# Altium footprint library USB.PcbLib: 54 footprints (part 1 of 4)
Each footprint in its own frame and in the unit in brackets; x right, y up, seen from the top. Pads: shape width x height; smd on the part's side, far side on the other; paste and mask are expansions set on the pad; w line width, h text height; cw(c..) or ccw(c..) is an arc to the next point about the centre after c.
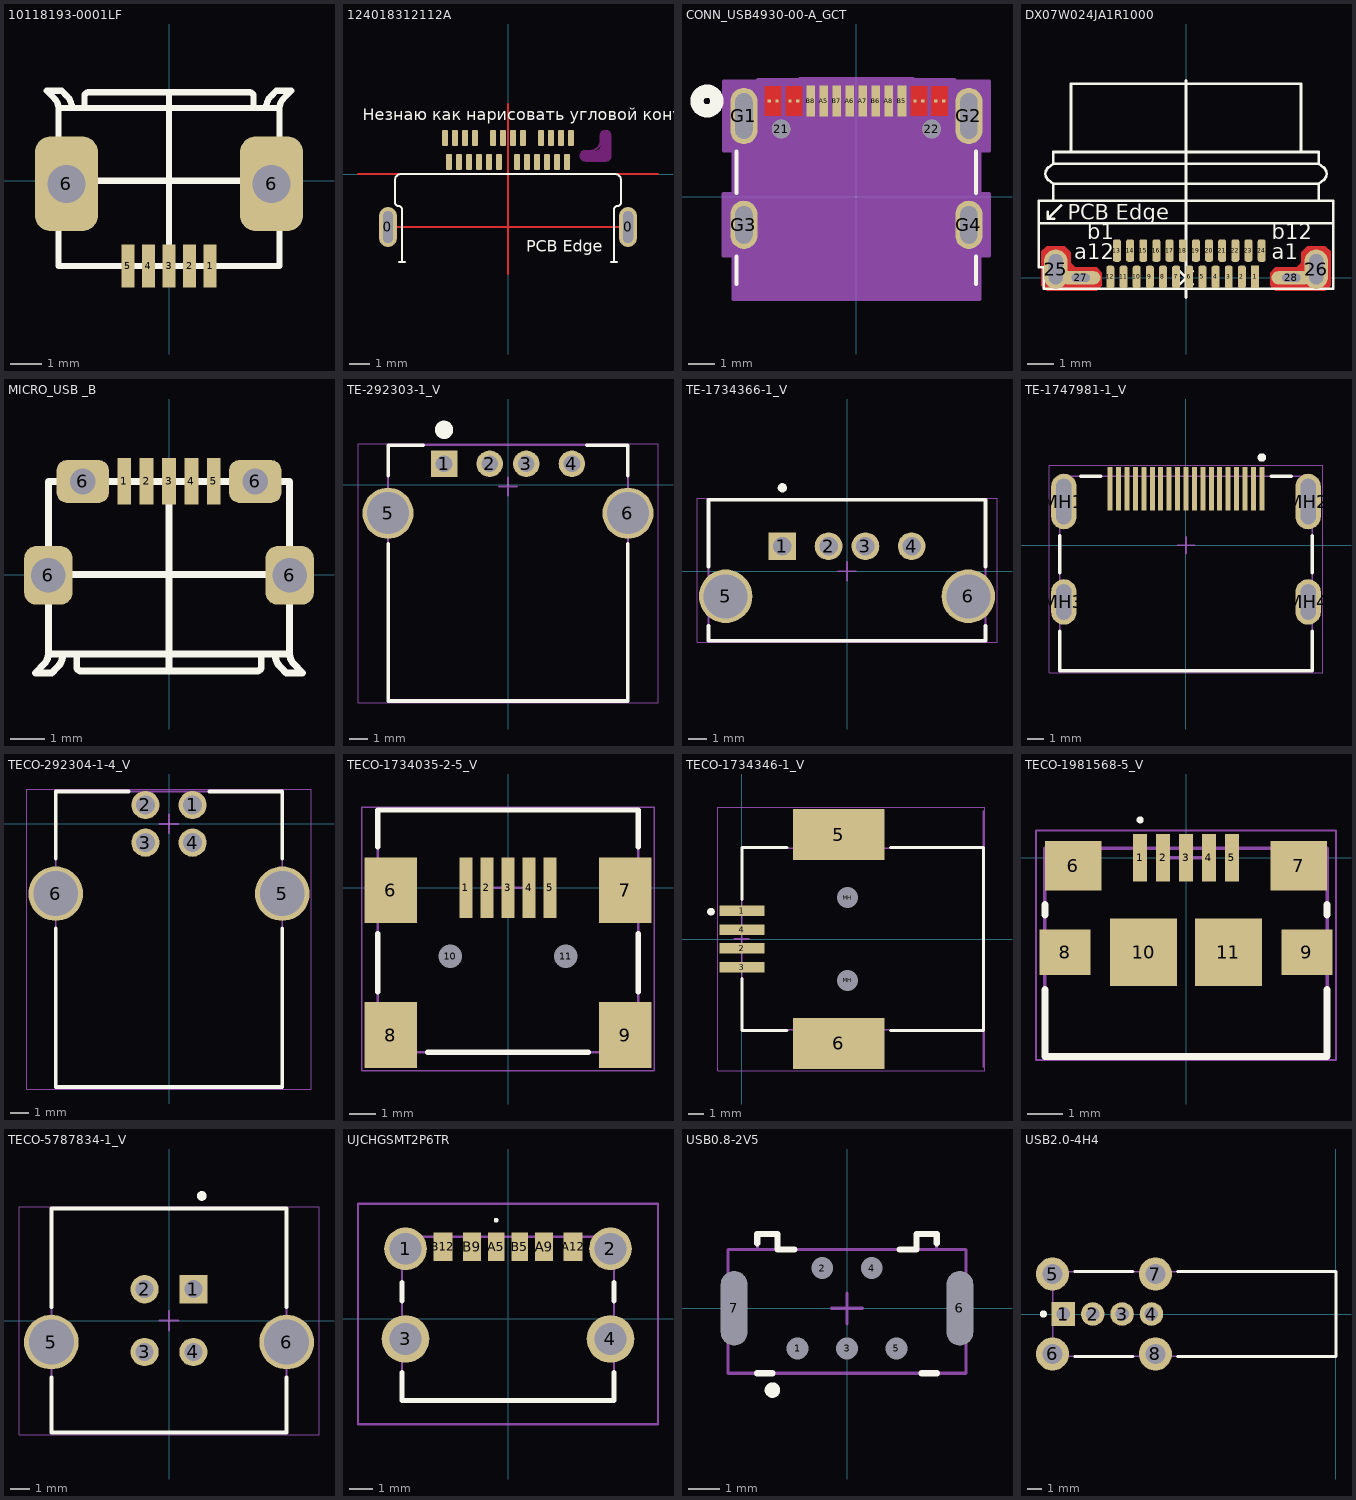
[diagram p0: the footprints below, top view; thin cyan lines are the x and y axes]

## 10118193-0001LF [mm]
pads (7):
  rect 0.4x1.35 smd: 1(1.3,-2.7) 2(0.65,-2.7) 3(0,-2.7) 4(-0.65,-2.7) 5(-1.3,-2.7)
  rrect50% 2x3 hole 1.2: 6(-3.25,-0.1) 6(3.25,-0.1)
Top Overlay:
  lines w0.2: -3.875,0 3.875,0 ; -3.075,2.3 ccw(c-3.618,2.3) -3.234,2.684 -3.4,2.85 -3.875,2.85 -3.624,2.599 cw(c-3.922,2.3) -3.5,2.3 ; -2.675,2.3 -2.675,2.69 cw(c-2.59,2.69) -2.65,2.75 cw(c-2.529,2.629) -2.529,2.8 0,2.8 ; 0,-2.7 0,2.8 ; 2.675,2.3 2.675,2.69 ccw(c2.59,2.69) 2.65,2.75 ccw(c2.529,2.629) 2.529,2.8 0,2.8 ; 3.075,2.3 cw(c3.618,2.3) 3.234,2.684 3.4,2.85 3.875,2.85 3.624,2.599 ccw(c3.922,2.3) 3.5,2.3 ; -3.5,2.3 3.5,2.3 ; -3.5,2.3 -3.5,-2.7 3.5,-2.7 3.5,2.3
3D body "10118193-0001lfc.stp": height 3.18, standoff -0.43, extent -3.928,-3 3.928,2.661

## 124018312112A [mm]
pads (26):
  oval 0.9x2 hole 0.5 slot 1.6 at 90 deg: 0(-6,-2.65) 0(6,-2.65)
  rrect50% 0.3x0.8 smd: 0(-3.15,1.8) 0(-2.95,0.6) 0(-2.65,1.8) 0(-2.45,0.6) 0(-2.15,1.8) 0(-1.95,0.6) 0(-1.65,1.8) 0(-1.45,0.6) 0(-0.95,0.6) 0(-0.75,1.8) 0(-0.45,0.6) 0(-0.25,1.8) 0(0.25,1.8) 0(0.45,0.6) 0(0.75,1.8) 0(0.95,0.6) 0(1.45,0.6) 0(1.65,1.8) 0(1.95,0.6) 0(2.15,1.8) 0(2.45,0.6) 0(2.65,1.8) 0(2.95,0.6) 0(3.15,1.8)
Top Layer:
  lines w0.1: -7.5,0 7.5,0 ; -6,-2.65 6,-2.65 ; 0,-5 0,3.5 ; 0,0.91 0,2.2
Top Layer keep-out:
  lines w0.1: 3.875,0.66 cw(c3.875,0.91) 3.875,1.16 4.125,1.16 ccw(c4.125,1.66) 4.625,1.66 4.625,1.91 cw(c4.875,1.91) 5.125,1.91 5.125,0.91 cw(c4.875,0.91) 4.875,0.66 3.875,0.66
Top Overlay:
  lines w0.1: -5.65,-1.412 ccw(c-5.463,-1.412) -5.463,-1.6 ; -5.65,-1.4 -5.65,-0.3 cw(c-5.35,-0.3) -5.35,0 5.35,0 cw(c5.35,-0.3) 5.65,-0.3 5.65,-1.4 ; -5.487,-1.6 cw(c-5.487,-1.787) -5.3,-1.787 ; -5.45,-4.4 -5.15,-4.4 ; -5.3,-4.4 -5.3,-1.8 ; 5.15,-4.4 5.45,-4.4 ; 5.3,-4.4 5.3,-1.8 ; 5.3,-1.787 cw(c5.487,-1.787) 5.487,-1.6 ; 5.463,-1.6 ccw(c5.463,-1.412) 5.65,-1.412
  text "Незнаю как нарисовать угловой контакт" at -7.25,2.5 h1
  text "PCB Edge" at 0.9,-4.1 h1
Keep-Out Layer:
  lines w0.5: 3.875,0.91 4.875,0.91 4.875,1.9 ; 4.375,0.91 ccw(c4.375,1.41) 4.875,1.41

## CONN_USB4930-00-A_GCT [mil]
pads (22):
  round 28 hole 28 unplated paste+0 mask+0: 21(-113.78,102.37) 22(113.78,102.37)
  rect 5x5 smd paste+0 mask+0: A1(-131.89,144.7) A4(-100.4,144.7) A9(100.39,144.7) A12(131.89,144.7) B1(120.08,144.7) B4(88.58,144.7) B9(-88.58,144.7) B12(-120.07,144.7)
  rect 13x47 smd paste+0 mask+0: A5(-49.21,144.7) A6(-9.84,144.7) A7(9.84,144.7) A8(49.21,144.7) B5(68.9,144.7) B6(29.53,144.7) B7(-29.53,144.7) B8(-68.9,144.7)
  oval 41x85 hole 69 slot 26 at 0 deg paste+0 mask+0: G1(-170.08,122.06) G2(170.08,122.06)
  oval 41x73 hole 57 slot 26 at 0 deg paste+0 mask+0: G3(-170.08,-42.51) G4(170.08,-42.51)
Top Layer:
  region: -138.48,122.7 -138.48,166.7 -113.48,166.7 -113.48,122.7
  region: -106.99,122.7 -106.99,166.7 -81.99,166.7 -81.99,122.7
  region: 81.99,122.7 81.99,166.7 106.99,166.7 106.99,122.7
  region: 113.49,122.7 113.49,166.7 138.49,166.7 138.49,122.7
Top Overlay:
  circle w20: c-226,144.7 r15
  lines w6: -181,-131.66 -181,-90.28 ; -181,5.27 -181,68.28 ; 181,-131.66 181,-90.28 ; 181,5.27 181,68.28
  text ".Designator" at -137.5,-25 h50
Bottom Overlay:
  circle w20: c-226,144.7 r15
Top Paste:
  region: -138.48,122.7 -138.48,166.7 -113.48,166.7 -113.48,122.7
  region: -106.99,122.7 -106.99,166.7 -81.99,166.7 -81.99,122.7
  region: 81.99,122.7 81.99,166.7 106.99,166.7 106.99,122.7
  region: 113.49,122.7 113.49,166.7 138.49,166.7 138.49,122.7
Top Solder:
  region: -138.48,122.7 -138.48,166.7 -113.48,166.7 -113.48,122.7
  region: -106.99,122.7 -106.99,166.7 -81.99,166.7 -81.99,122.7
  region: 81.99,122.7 81.99,166.7 106.99,166.7 106.99,122.7
  region: 113.49,122.7 113.49,166.7 138.49,166.7 138.49,122.7
Mechanical 13:
  circle w20: c-131.89,144.7 r15
  lines w1: -176,-144.5 176,-144.5 176,144.5 -176,144.5 -176,-144.5
  text ".Designator" at -137.5,-25 h50
Mechanical 15:
  region: -148.48,174.56 -200.58,174.56 -200.58,69.56 -186,69.56 -186,3.99 -200.58,3.99 -200.58,-89.01 -186,-89.01 -186,-154.5 186,-154.87 186,-89.01 200.58,-89.01 200.58,3.99 186,3.99 186,69.56 200.58,69.56 200.58,174.56 148.49,174.56 148.49,176.7 85.4,176.7 85.4,178.2 -85.4,178.2 -85.4,176.7 -148.48,176.7
  lines w6: -200.58,-89.01 -200.58,3.99 -186,3.99 -186,69.56 -200.58,69.56 -200.58,174.56 -148.48,174.56 -148.48,176.7 -85.4,176.7 -85.4,178.2 85.4,178.2 85.4,176.7 148.49,176.7 148.49,174.56 200.58,174.56 200.58,69.56 186,69.56 186,3.99 200.58,3.99 200.58,-89.01 186,-89.01 186,-154.87 -186,-154.5 -186,-89.01 -200.58,-89.01
Multi-Layer:
  lines w1: -176,-144.87 176,-144.87
3D body "USB4930-00-A.stp": height 130.32, standoff -37.4, extent -175.98,-144.87 175.98,159.46

## DX07W024JA1R1000 [mm]
pads (28):
  rect 0.3x0.85 smd: 1(2.625,0.035)
  rrect50% 0.3x0.85 smd: 2(2.125,0.035) 3(1.625,0.035) 4(1.125,0.035) 5(0.625,0.035) 6(0.125,0.035) 7(-0.375,0.035) 8(-0.875,0.035) 9(-1.375,0.035) 10(-1.875,0.035) 11(-2.375,0.035) 12(-2.875,0.035) 13(-2.625,1.035) 14(-2.125,1.035) 15(-1.625,1.035) 16(-1.125,1.035) 17(-0.625,1.035) 18(-0.125,1.035) 19(0.375,1.035) 20(0.875,1.035) 21(1.375,1.035) 22(1.875,1.035) 23(2.375,1.035) 24(2.875,1.035)
  oval 0.9x1.5 hole 0.55 slot 1.15 at 90 deg: 25(-4.95,0.33) 26(4.95,0.33)
  oval 1.5x0.5 hole 0.3 slot 0.7 at 0 deg: 27(-4,0) 28(4,0)
Top Layer:
  region: -5.3,-0.5 -5.5,-0.3 -5.5,1 -5.3,1.2 -4.6,1.2 -4.375,0.975 -4.375,0.575 -4.2,0.4 -3.4,0.4 -3.2,0.2 -3.2,-0.3 -3.4,-0.5
  region: 5.3,-0.5 5.5,-0.3 5.5,1 5.3,1.2 4.6,1.2 4.375,0.975 4.375,0.575 4.2,0.4 3.4,0.4 3.2,0.2 3.2,-0.3 3.4,-0.5
Top Overlay:
  lines w0.1: -5.6,2.08 5.6,2.08 ; -5.25,2.5 -5.25,2.25 ; -5.05,2.93 -5.05,3.58 ; -5.05,4.78 -5.05,4.33 ; -5.044,4.78 5.05,4.78 5.05,4.33 ; -5,2.25 -5.25,2.25 ; -0.25,-0.25 0.25,0.25 ; -0.25,0.25 0.25,-0.25 ; 0,-0.75 0,7.5 ; 5.05,2.93 5.05,3.58 ; -5.25,2.25 -4.75,2.75 ; -5.05,3.58 -5.228,3.718 cw(c-5.044,3.955) -5.228,4.192 -5.05,4.33 ; -5.05,3.58 5.05,3.58 ; -5.05,3.58 5.05,3.58 ; -5.05,4.33 5.05,4.33 ; -4.75,2.75 -4.75,2.75 ; 5.05,3.58 5.228,3.718 ccw(c5.044,3.955) 5.228,4.192 5.05,4.33 ; -5.6,0.4 -5.4,0.4 -5.4,-0.42 5.6,-0.42 5.6,2.93 -5.6,2.93 -5.6,0.4 ; -4.37,4.78 -4.37,7.38 4.37,7.38 4.37,4.78 -4.37,4.78
  text "a12" at -4.25,0.5 h1
  text "a1" at 3.25,0.5 h1
  text "b12" at 3.25,1.25 h1
  text "b1" at -3.75,1.25 h1
  text "PCB Edge" at -4.5,2 h1
3D body "DX07W024JA1R1000.stp": height 3.6, standoff -0.9, extent -5.649,-0.425 5.649,7.375

## MICRO_USB _B [mm]
pads (9):
  rect 0.4x1.35 smd: 1(-1.3,2.7) 2(-0.65,2.7) 3(0,2.7) 4(0.65,2.7) 5(1.3,2.7)
  rrect50% 1.4x1.7 hole 1: 6(-3.5,-0.025) 6(3.5,-0.025)
  rrect50% 1.524x1.25 hole 0.75: 6(-2.5,2.7) 6(2.5,2.7)
Top Overlay:
  lines w0.2: -3.875,0 3.875,0 ; -3.075,-2.3 cw(c-3.618,-2.3) -3.234,-2.684 -3.4,-2.85 -3.875,-2.85 -3.624,-2.599 ccw(c-3.922,-2.3) -3.5,-2.3 ; -2.675,-2.3 -2.675,-2.69 ccw(c-2.59,-2.69) -2.65,-2.75 ccw(c-2.529,-2.629) -2.529,-2.8 0,-2.8 ; 0,2.7 0,-2.8 ; 2.675,-2.3 2.675,-2.69 cw(c2.59,-2.69) 2.65,-2.75 cw(c2.529,-2.629) 2.529,-2.8 0,-2.8 ; 3.075,-2.3 ccw(c3.618,-2.3) 3.234,-2.684 3.4,-2.85 3.875,-2.85 3.624,-2.599 cw(c3.922,-2.3) 3.5,-2.3 ; -3.5,-2.3 3.5,-2.3 ; -3.5,-2.3 -3.5,2.7 3.5,2.7 3.5,-2.3
3D body "micro_usb_b.step": height 2.63, standoff -0.65, extent -4.025,-2.73 4.025,2.85

## TE-292303-1_V [mm] "THD, 4-Leads, Body 13.13x14mm, Pitch 2.5mm"
height 7.01
pads (6):
  rect 1.45x1.45 hole 0.92: 1(-3.5,1.144)
  round 1.45 hole 0.92: 2(-1,1.144) 3(1,1.144) 4(3.5,1.144)
  round 2.8 hole 2.3: 5(-6.57,-1.566) 6(6.57,-1.566)
Top Overlay:
  circle w0.5: c-3.5,3.004 r0.25
  lines w0.2: -6.565,-3.25 -6.565,-11.846 6.565,-11.846 6.565,-3.25 ; -6.565,0.5 -6.565,2.154 -4.65,2.154 ; 4.33,2.154 6.565,2.154 6.565,0.5
Mechanical 13:
  lines w0.1: -6.565,-11.846 -6.565,2.154 6.565,2.154 6.565,-11.846 -6.565,-11.846
Mechanical 15:
  lines w0.05: -8.216,-11.946 8.216,-11.946 8.216,2.254 -8.216,2.254 -8.216,-11.946
  lines w0.1: -0.5,-0.105 0.5,-0.105 ; 0,-0.605 0,0.395
3D body "c-292303-1-e3-3d.stp": height 7.01, standoff -3.54, extent -8.116,-11.846 8.116,2.154

## TE-1734366-1_V [mm] "Connector, 6-Leads, Body 7.62x15mm"
height 15
pads (6):
  rect 1.5x1.5 hole 1: 1(-3.5,1.355)
  round 1.5 hole 1: 2(-1,1.355) 3(1,1.355) 4(3.5,1.355)
  round 2.9 hole 2.38: 5(-6.57,-1.355) 6(6.57,-1.355)
Top Overlay:
  circle w0.25: c-3.5,4.515 r0.125
  lines w0.2: -7.5,-2.954 -7.5,-3.755 7.5,-3.755 7.5,-2.954 ; -7.5,0.244 -7.5,3.865 7.5,3.865 7.5,0.244
Mechanical 13:
  lines w0.1: -7.5,-3.755 7.5,-3.755 7.5,3.865 -7.5,3.865 -7.5,-3.755
Mechanical 15:
  lines w0.05: -8.12,-3.855 8.12,-3.855 8.12,3.965 -8.12,3.965 -8.12,-3.855
  lines w0.1: -0.5,0 0.5,0 ; 0,-0.5 0,0.5
3D body: height 0, standoff -2.8, extent 3.183,1.038 3.818,1.673
3D body: height 0, standoff -2.8, extent 0.683,1.038 1.318,1.673
3D body: height 0, standoff -2.8, extent -1.317,1.038 -0.682,1.673
3D body: height 0, standoff -2.8, extent -3.817,1.038 -3.182,1.673
3D body: height 15, standoff 0, extent -7.5,-3.81 7.5,3.81

## TE-1747981-1_V [mm] "Connector, 19-Leads, Body 11.55x15mm, Pitch 0.5mm"
height 6.38
pads (23):
  rect 0.3x2.6 smd: 1(4.5,3.36) 2(4,3.36) 3(3.5,3.36) 4(3,3.36) 5(2.5,3.36) 6(2,3.36) 7(1.5,3.36) 8(1,3.36) 9(0.5,3.36) 10(0,3.36) 11(-0.5,3.36) 12(-1,3.36) 13(-1.5,3.36) 14(-2,3.36) 15(-2.5,3.36) 16(-3,3.36) 17(-3.5,3.36) 18(-4,3.36) 19(-4.5,3.36)
  oval 1.5x3.3 hole 0.9 slot 2.7 at 90 deg: MH1(-7.25,2.6) MH2(7.25,2.6)
  oval 1.5x2.7 hole 0.9 slot 2.1 at 90 deg: MH3(-7.25,-3.36) MH4(7.25,-3.36)
Top Overlay:
  circle w0.25: c4.5,5.21 r0.125
  lines w0.2: -7.5,-5.09 -7.5,-7.45 7.5,-7.45 7.5,-5.09 ; -7.5,-1.627 -7.5,0.575 ; -6.26,4.1 -5.05,4.1 ; 5.05,4.1 6.26,4.1 ; 7.5,-1.627 7.5,0.575
Mechanical 13:
  lines w0.1: -7.5,-7.45 -7.5,4.1 7.5,4.1 7.5,-7.45 -7.5,-7.45
Mechanical 15:
  lines w0.05: -8.1,-7.55 -8.1,4.76 8.1,4.76 8.1,-7.55 -8.1,-7.55
  lines w0.1: -0.5,0 0.5,0 ; 0,-0.5 0,0.5
3D body "c-1747981-1-j-3d.stp": height 6.38, standoff -2.1, extent -7.5,-7.45 7.5,4.55

## TECO-292304-1-4_V [mm] "THD, 4-Leads, Body 15.71x12.04mm, Pitch 2.5mm"
height 11.05
pads (6):
  round 1.5 hole 1: 1(1.25,1) 2(-1.25,1) 3(-1.25,-1) 4(1.25,-1)
  round 2.9 hole 2.38: 5(6.02,-3.71) 6(-6.02,-3.71)
Top Overlay:
  lines w0.2: -6.02,-5.56 -6.02,-13.99 6.02,-13.99 6.02,-5.56 ; -6.02,-1.86 -6.02,1.72 -2.147,1.72 ; 2.147,1.72 6.02,1.72 6.02,-1.86
Mechanical 13:
  lines w0.1: -6.02,-13.99 6.02,-13.99 6.02,1.72 -6.02,1.72 -6.02,-13.99
Mechanical 15:
  lines w0.05: -7.57,-14.09 7.57,-14.09 7.57,1.85 -7.57,1.85 -7.57,-14.09
  lines w0.1: -0.5,0 0.5,0 ; 0,-0.5 0,0.5
3D body: height 11.05, standoff 0, extent -6.02,-13.99 6.02,1.72

## TECO-1734035-2-5_V [mm] "SMD, 5-Leads, Body 9.9x9.2mm, Pitch 0.8mm"
height 4.09
pads (11):
  rect 0.5x2.3 smd: 1(-1.6,0) 2(-0.8,0) 3(0,0) 4(0.8,0) 5(1.6,0)
  rect 2x2.5 smd: 6(-4.45,-0.1) 7(4.45,-0.1) 8(-4.45,-5.6) 9(4.45,-5.6)
  round 0.6 hole 0.9 unplated: 10(-2.2,-2.6) 11(2.2,-2.6)
Top Overlay:
  lines w0.2: -4.95,-3.95 -4.95,-1.75 ; -4.95,1.55 -4.95,2.95 4.95,2.95 4.95,1.55 ; -3.05,-6.25 3.05,-6.25 ; 4.95,-3.95 4.95,-1.75
Mechanical 13:
  lines w0.1: -4.95,-6.25 -4.95,2.95 4.95,2.95 4.95,-6.25 -4.95,-6.25
Mechanical 15:
  lines w0.05: -5.55,-6.95 -5.55,3.05 5.55,3.05 5.55,-6.95 -5.55,-6.95
  lines w0.1: -0.5,0 0.5,0 ; 0,-0.5 0,0.5
3D body: height 4.09, standoff 0, extent -4.95,-6.25 4.95,2.95

## TECO-1734346-1_V [mm] "SMD, 4-Leads, Body 12.04x16mm, Height 10.87 mm"
height 10.87
pads (8):
  rect 3x0.7 smd: 1(0,1.87) 2(0,-0.62) 3(0,-1.87) 4(0,0.62)
  rect 6.04x3.4 smd: 5(6.42,6.92) 6(6.42,-6.92)
  round 0.6 hole 1.4 unplated: MH(7,-2.75) MH(7,2.75)
Top Overlay:
  circle w0.25: c-2.05,1.808 r0.125
  lines w0.2: 0,-2.62 0,-6.07 3,-6.07 ; 0,2.62 0,6.07 3,6.07 ; 9.84,-6.07 16,-6.07 16,6.07 9.84,6.07
Mechanical 1:
  lines w0.1: 16,-8.5 16,8.5
  text "Board Edge" at 16.891,-3.048 h0.5
Mechanical 13:
  lines w0.1: 0,-6.02 0,6.02 16,6.02 16,-6.02 0,-6.02
Mechanical 15:
  lines w0.05: -1.6,-8.72 -1.6,8.72 16.1,8.72 16.1,-8.72 -1.6,-8.72
  lines w0.1: -0.5,0 0.5,0 ; 0,-0.5 0,0.5
3D body "c-1734346-1-c-3d.stp": height 10.87, standoff -1.12, extent -1.1,-8.25 16,8.25

## TECO-1981568-5_V [mm] "SMD, 5-Leads, Body 8x5.9mm, Pitch 0.65mm"
height 3
pads (11):
  rect 0.4x1.35 smd: 1(-1.3,0) 2(-0.65,0) 3(0,0) 4(0.65,0) 5(1.3,0)
  rect 1.6x1.4 smd: 6(-3.2,-0.225) 7(3.2,-0.225)
  rect 1.45x1.3 smd: 8(-3.425,-2.675) 9(3.425,-2.675)
  rect 1.9x1.9 smd: 10(-1.2,-2.675) 11(1.2,-2.675)
Top Overlay:
  circle w0.1: c-1.3,1.075 r0.05
  lines w0.2: -4,-3.725 -4,-5.625 4,-5.625 4,-3.725 ; -4,-1.625 -4,-1.325 ; 4,-1.625 4,-1.325
Mechanical 13:
  lines w0.1: -4,-5.625 4,-5.625 4,0.275 -4,0.275 -4,-5.625
Mechanical 15:
  lines w0.05: -4.25,-5.725 -4.25,0.775 4.25,0.775 4.25,-5.725 -4.25,-5.725
  lines w0.1: -0.5,0 0.5,0 ; 0,-0.5 0,0.5
3D body: height 3, standoff 0, extent -4,-5.625 4,0.275

## TECO-5787834-1_V [mm] "THD, 4-Leads, Body 12.03x11.46mm, Pitch 2.5mm"
height 15.62
pads (6):
  rect 1.45x1.45 hole 0.92: 1(1.25,1.605)
  round 1.45 hole 0.92: 2(-1.25,1.605) 3(-1.25,-1.605) 4(1.25,-1.605)
  round 2.8 hole 2.3: 5(-6.02,-1.1) 6(6.02,-1.1)
Top Overlay:
  circle w0.25: c1.68,6.38 r0.125
  lines w0.2: -6.015,-2.9 -6.015,-5.73 6.015,-5.73 6.015,-2.9 ; -6.015,0.7 -6.015,5.73 6.015,5.73 6.015,0.7
Mechanical 13:
  lines w0.1: -6.015,-5.73 6.015,-5.73 6.015,5.73 -6.015,5.73 -6.015,-5.73
Mechanical 15:
  lines w0.05: -7.675,-5.83 -7.675,5.83 7.675,5.83 7.675,-5.83 -7.675,-5.83
  lines w0.1: -0.5,0 0.5,0 ; 0,-0.5 0,0.5
3D body "c-5787834-1-1-3d.stp": height 15.62, standoff -3.92, extent -7.575,-5.728 7.575,5.728

## UJCHGSMT2P6TR [mm]
pads (10):
  round 1.8 hole 1.34: 1(-4.32,2.95) 2(4.32,2.95)
  round 2.01 hole 1.34: 3(-4.32,-0.85) 4(4.32,-0.85)
  rect 0.7x1.2 smd: A5(-0.5,3.03) B5(0.5,3.03)
  rect 0.76x1.2 smd: A9(1.52,3.03) B9(-1.52,3.03)
  rect 0.8x1.2 smd: A12(2.75,3.03) B12(-2.75,3.03)
Top Overlay:
  lines w0.1: -0.5,4.1 ccw(c-0.5,4.15) -0.5,4.2 ccw(c-0.5,4.15) -0.5,4.1
  lines w0.2: -4.47,-2.267 -4.47,-3.45 4.47,-3.45 4.47,-2.267 ; -4.47,0.733 -4.47,1.533 ; 4.47,0.733 4.47,1.533
Mechanical 15:
  lines w0.1: -4.47,-3.45 4.47,-3.45 4.47,3.45 -4.47,3.45 -4.47,-3.45
Mechanical 20:
  lines w0.1: -6.325,-4.45 6.325,-4.45 6.325,4.85 -6.325,4.85 -6.325,-4.45
3D body "UJC-H-G-SMT-2-P6-TR.stp": height 3.28, standoff -1.88, extent -4.47,-3.53 4.47,3.37

## USB0.8-2V5 [mm] "Connector; USB Mini-B, Type 2, Thru-Hole; 5 Position; Vertical"
height 7.7
pads (7):
  round 0.4 / inner round 0.4 / far side oval 1.1x1.7 hole 0.7: 1(-1.6,-1.3) 2(-0.8,1.3) 3(0,-1.3) 4(0.8,1.3) 5(1.6,-1.3)
  oval 0.55x2.1 / inner oval 0.55x2.1 / far side oval 1.6x3.9 hole 0.85 slot 2.4 at 90 deg: 6(3.65,0) 7(-3.65,0)
Top Overlay:
  circle w0.25: c-2.41,-2.645 r0.125
  lines w0.2: -2.91,-2.1 -2.41,-2.1 ; -2.9,2.1 -2.9,2.4 -2.25,2.4 -2.25,1.9 -1.7,1.9 ; 1.7,1.9 2.25,1.9 2.25,2.4 2.9,2.4 2.9,2.1 ; 2.41,-2.1 2.91,-2.1
Mechanical 13:
  lines w0.1: -2.9,1.9 -2.9,2.4 -2.25,2.4 -2.25,1.9 ; 2.25,1.9 2.25,2.4 2.9,2.4 2.9,1.9 ; -3.85,-2.1 3.85,-2.1 3.85,1.9 -3.85,1.9 -3.85,-2.1
Mechanical 15:
  lines w0.1: -0.5,0 0.5,0 ; 0,-0.5 0,0.5
3D body: height 7.7, standoff 0, extent 2.251,1.901 2.899,2.399
3D body: height 7.7, standoff 0, extent -2.899,1.901 -2.251,2.399
3D body: height 7.7, standoff 0, extent -3.849,-2.099 3.849,1.899

## USB2.0-4H4 [mm] "Connector; USB1.1, Type A, Thru-Hole; 4 Position; Right Angle"
height 13.83
pads (8):
  rect 1.6x1.6 hole 0.92: 1(-18.56,0)
  round 1.6 hole 0.92: 2(-16.56,0) 3(-14.56,0) 4(-12.56,0)
  round 2.25 hole 1.35: 5(-19.29,2.72) 6(-19.29,-2.72) 7(-12.29,2.72) 8(-12.29,-2.72)
Top Overlay:
  circle w0.25: c-19.91,0 r0.125
  lines w0.2: -17.78,-2.88 -13.8,-2.88 ; -17.78,2.88 -13.8,2.88 ; -10.78,-2.88 0,-2.88 0,2.88 -10.78,2.88
Mechanical 13:
  lines w0.1: -19.29,-2.88 -19.29,2.88 0,2.88 0,-2.88 -19.29,-2.88
3D body: height 13.83, standoff 0, extent -19.289,-2.879 -0.001,2.879